# EAGLE library part FE06-2 (library con-lsta)
FEMALE HEADER
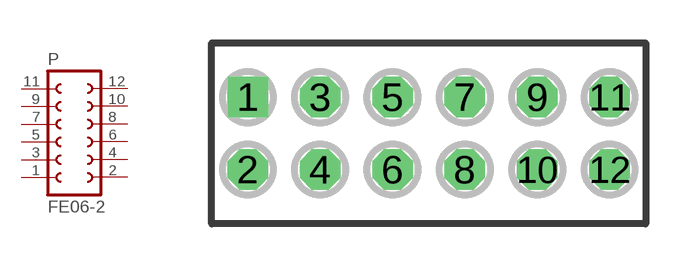
[diagram p7: symbol with the pads of FE06-2; footprint FE06-2]

Designator prefix P

## FE06-2  [FE06-2]
1  1  pas
2  2  pas
3  3  pas
4  4  pas
5  5  pas
6  6  pas
7  7  pas
8  8  pas
9  9  pas
10  10  pas
11  11  pas
12  12  pas

## Footprint FE06-2 (pad centres in mm)
FEMALE HEADER
drill 0.914 square: 1 -6.35,1.27
drill 0.914 octagon: 2 -6.35,-1.27; 3 -3.81,1.27; 4 -3.81,-1.27; 5 -1.27,1.27; 6 -1.27,-1.27; 7 1.27,1.27; 8 1.27,-1.27; 9 3.81,1.27; 10 3.81,-1.27; 11 6.35,1.27; 12 6.35,-1.27